# Altium integrated library ConnectorWireToBoard.IntLib: 63 symbols
Pins are listed as number, name and electrical type; pins without a type are passive.

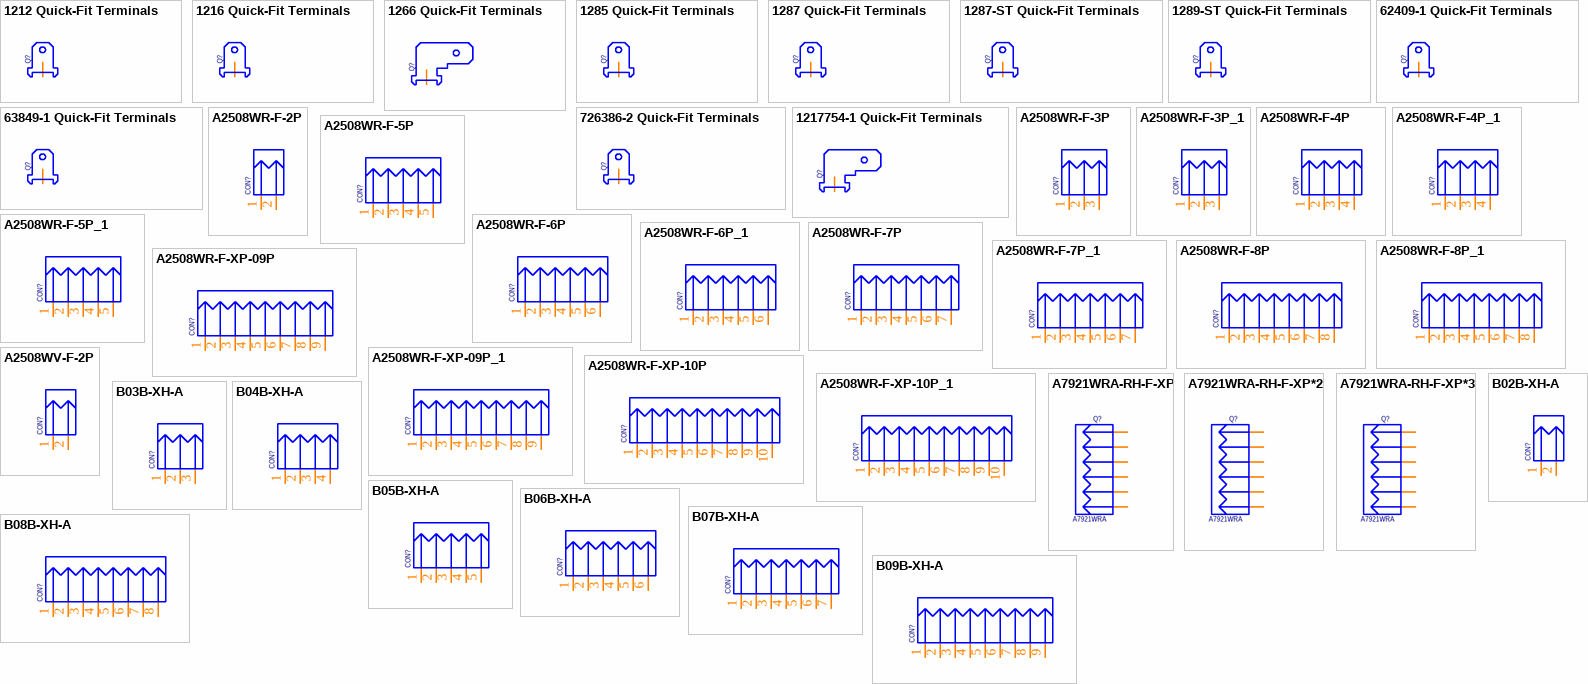
[diagram p0: symbols 1212 Quick-Fit Terminals to B09B-XH-A]

## 1212 Quick-Fit Terminals
designator Q?, comment 1212 Terminals  (value not drawn)
[4.75x6.0mm] Tab Size; Manufacturer: Keystone; Manufacturer PartNumber: 1212; Detailed Description: Male .187" Quick Fit Terminal P/N 1212; Value: 1212; Website developer: http://catcatcat.d-lan.dp.ua/; HelpURL: https://www.keyelco.com/product-pdf.cfm?p=595; Manufacturer URL: https://www.keyelco.com/product.cfm/Vertical-Mount/1216/p/398/id/401/c_id/1095/product_id/591; Package / Case: Through Hole; Publisher: Catcatcat Electronics
footprint 1212
footprint 1212U
pins: 1

## 1216 Quick-Fit Terminals
designator Q?, comment 1216 Terminals  (value not drawn)
[4.75x15.49mm] Tab Size; Manufacturer: Keystone; Manufacturer PartNumber: 1216; Detailed Description: Male .187" Quick Fit Terminal P/N 1216; Value: 1216; Website developer: http://catcatcat.d-lan.dp.ua/; HelpURL: https://www.keyelco.com/product-pdf.cfm?p=591; Manufacturer URL: https://www.keyelco.com/product.cfm/Vertical-Mount/1212/product_id/595; Package / Case: Through Hole; Publisher: Catcatcat Electronics
footprint 1216
footprint 1216U
pins: 1

## 1266 Quick-Fit Terminals
designator Q?, comment 1266 Terminals  (value not drawn)
[6.35x7.92mm] Tab Size; Manufacturer: Keystone; Manufacturer PartNumber: 1266; Detailed Description: Male .250" Quick Fit Terminal P/N 1266; Value: 1266; Website developer: http://catcatcat.d-lan.dp.ua/; Dealer LCSC: https://lcsc.com/product-detail/_Keystone_1266_Keystone-1266_C238076.html; HelpURL: https://datasheet.lcsc.com/szlcsc/Keystone-1266_C238076.pdf; Manufacturer URL: https://www.keyelco.com/product.cfm/Horizontal-Mount/1266/product_id/607; Package / Case: Through Hole; PartNumber LCSC: C238076; Pricing LCSC: 0.1909; Publisher: Catcatcat Electronics
footprint 1266U
footprint 1266
pins: 1

## 1285 Quick-Fit Terminals
designator Q?, comment 1285 Terminals  (value not drawn)
[4.75x8.89mm] Tab Size; Manufacturer: Keystone; Manufacturer PartNumber: 1285; Detailed Description: Male .187" Quick Fit Terminal P/N 1285; Value: 1285; Website developer: http://catcatcat.d-lan.dp.ua/; Dealer LCSC: https://lcsc.com/product-detail/Soldering-Terminals-Quick-Connectors_Keystone_1285_Keystone-1285_C238077.html; HelpURL: https://datasheet.lcsc.com/szlcsc/Keystone-1285_C238077.pdf; Manufacturer URL: https://www.keyelco.com/product.cfm/Vertical-Mount/1285/product_id/590; Package / Case: Through Hole; PartNumber LCSC: C238077; Pricing LCSC: 0.1519; Publisher: Catcatcat Electronics
footprint 1285
footprint 1285U
pins: 1

## 1287 Quick-Fit Terminals
designator Q?, comment 1287 Terminals  (value not drawn)
[6.35x10.39mm] Tab Size; Manufacturer: Keystone; Manufacturer PartNumber: 1287; Detailed Description: Male .250" Quick Fit Terminal Sturdi-Mount P/N 1287; Value: 1287; Website developer: http://catcatcat.d-lan.dp.ua/; Dealer LCSC: https://lcsc.com/product-detail/Soldering-Terminals-Quick-Connectors_Keystone_1287_Keystone-1287_C238078.html; HelpURL: https://datasheet.lcsc.com/szlcsc/Keystone-1287_C238078.pdf; Manufacturer URL: https://www.keyelco.com/product.cfm/Vertical-Sturdi-Mount/1287-ST/product_id/1859; Package / Case: Through Hole; PartNumber LCSC: C238078; Pricing LCSC: 0.1076; Publisher: Catcatcat Electronics
footprint 1287U
footprint 1287
pins: 1

## 1287-ST Quick-Fit Terminals
designator Q?, comment 1287-ST Terminals  (value not drawn)
[6.35x10.39mm] Tab Size; Manufacturer: Keystone; Detailed Description: Male .250" Quick Fit Terminal Sturdi-Mount P/N 1287-ST; Website developer: http://catcatcat.d-lan.dp.ua/; Dealer LCSC: https://lcsc.com/product-detail/Soldering-Terminals-Quick-Connectors_Keystone_1287_Keystone-1287_C238078.html; HelpURL: https://www.keyelco.com/product-pdf.cfm?p=1859; Manufacturer PartNumber: 1287-ST; Manufacturer URL: https://www.keyelco.com/product.cfm/Vertical-Sturdi-Mount/1287-ST/product_id/1859; Package / Case: Through Hole; Publisher: Catcatcat Electronics; Value: 1287-ST
footprint 1287-STU
footprint 1287-ST
pins: 1

## 1289-ST Quick-Fit Terminals
designator Q?, comment 1289-ST Terminals  (value not drawn)
[6.35x11.94mm] Tab Size; Manufacturer: Keystone; Detailed Description: Male .250" Quick Fit Terminal Sturdi-Mount P/N 1289-ST; Website developer: http://catcatcat.d-lan.dp.ua/; HelpURL: https://www.keyelco.com/product-pdf.cfm?p=1860; Manufacturer PartNumber: 1289-ST; Manufacturer URL: https://www.keyelco.com/product.cfm/Vertical-Sturdi-Mount/1289-ST/product_id/1860; Package / Case: Through Hole; Publisher: Catcatcat Electronics; Value: 1289-ST
footprint 1289-ST
footprint 1289-STU
pins: 1

## 62409-1 Quick-Fit Terminals
designator Q?, comment 62409-1 Terminals  (value not drawn)
[6.35x12.62mm] Tab Size; Manufacturer: TE Connectivity; Detailed Description: Terminals Terminal RoHS; Website developer: http://catcatcat.d-lan.dp.ua/; Dealer LCSC: https://lcsc.com/product-detail/Rectangular-Connectors-Contacts_TE-Connectivity_62409-1_Terminal-Male-head_C86495.html; HelpURL: https://datasheet.lcsc.com/szlcsc/TE-Connectivity-62409-1_C86495.pdf; Manufacturer PartNumber: 62409-1; Package / Case: Through Hole; PartNumber LCSC: C86495; Pricing LCSC: 0.0508; Publisher: Catcatcat Electronics; Value: 62409-1
footprint 1289-ST
footprint 1289-STU
pins: 1

## 63849-1 Quick-Fit Terminals
designator Q?, comment 63849-1 Terminals  (value not drawn)
[6.35x10.39] Tab Size; Manufacturer: TE Connectivity; Detailed Description: Terminals Terminal RoHS; Website developer: http://catcatcat.d-lan.dp.ua/; Dealer LCSC: https://lcsc.com/product-detail/Rectangular-Connectors-Contacts_TE-Connectivity_63849-1_PCB-Terminal_C86469.html; HelpURL: https://datasheet.lcsc.com/szlcsc/TE-Connectivity-63849-1_C86469.pdf; Manufacturer PartNumber: 63849-1; Package / Case: Through Hole; PartNumber LCSC: C86469; Pricing LCSC: 0.0411; Publisher: Catcatcat Electronics; Value: 63849-1
footprint 1287-STU
footprint 1287-ST
pins: 1

## 726386-2 Quick-Fit Terminals
designator Q?, comment 726386-2 Terminals  (value not drawn)
[6.35x10.00mm] Tab Size; Manufacturer: TE Connectivity; Detailed Description: Terminals Terminal RoHS; Website developer: http://catcatcat.d-lan.dp.ua/; Dealer LCSC: https://lcsc.com/product-detail/Others_TE-Connectivity_726386-2_TE-Connectivity-726386-2_C305817.html; HelpURL: https://datasheet.lcsc.com/szlcsc/TE-Connectivity-726386-2_C305817.pdf; Manufacturer PartNumber: 726386-2; Package / Case: Through Hole; PartNumber LCSC: C305817; Pricing LCSC: 0.0719; Publisher: Catcatcat Electronics; Value: 726386-2
footprint 1287-STU
footprint 1287-ST
pins: 1

## 1217754-1 Quick-Fit Terminals
designator Q?, comment 1217754-1 Terminals  (value not drawn)
[6.35x7.92mm] Tab Size; Manufacturer: TE Connectivity; Detailed Description: Terminals RoHS; Website developer: http://catcatcat.d-lan.dp.ua/; Dealer LCSC: https://lcsc.com/product-detail/Others_TE-Connectivity_1217754-1_TE-Connectivity-1217754-1_C305825.html; HelpURL: https://datasheet.lcsc.com/szlcsc/TE-Connectivity-1217754-1_C305825.pdf; Manufacturer PartNumber: 1217754-1; Package / Case: Through Hole; PartNumber LCSC: C305825; Pricing LCSC: 0.1111; Publisher: Catcatcat Electronics; Value: 1217754-1
footprint 1266U (Footprint not found)
footprint 1266 (Footprint not found)
pins: 1

## A2508WR-F-2P
designator CON?  (value not drawn)
3 A 250 V 2.5 mm; Manufacturer: Changjiang Connectors; Value: A2508WR-F-XP-02P; Temp.Characteristic: -40C to +85C; Detailed Description: Wire To Board / Wire To Wire Connector PluginP=2.5mm RoHS; ComponentLink1URL: http://www.jst-mfg.com; ComponentLink2URL: http://www.jst-mfg.com/product/images/pdf.gif; Package / Case: 2.5 mm; Publisher: Catcatcat Electronics; Voltage: 3 A 250 V 2.5 mm; HelpURL: https://datasheet.lcsc.com/szlcsc/Changjiang-Connectors-A2508WR-F-2P_C225470.pdf; Manufacturer PartNumber: A2508WR-F-2P; Website developer: http://catcatcat.d-lan.dp.ua/; Dealer LCSC: https://lcsc.com/product-detail/Wire-To-Board-Wire-To-Wire-Connector_Changjiang-Connectors-A2508WR-F-2P_C225470.html; PartNumber LCSC: C225470; Pricing LCSC: 0.0456
footprint A2508WR-F-XP-02P
pins: 1, 2

## A2508WR-F-3P
designator CON?  (value not drawn)
3 A 250 V 2.5 mm; Manufacturer: Changjiang Connectors; Value: A2508WR-F-XP-03P; Temp.Characteristic: -40C to +85C; Detailed Description: Wire To Board / Wire To Wire Connector PluginP=2.5mm RoHS; ComponentLink1URL: http://www.jst-mfg.com; ComponentLink2URL: http://www.jst-mfg.com/product/images/pdf.gif; Package / Case: 2.5 mm; Publisher: Catcatcat Electronics; Voltage: 3 A 250 V 2.5 mm; HelpURL: https://datasheet.lcsc.com/szlcsc/Changjiang-Connectors-A2508WR-F-3P_C225471.pdf; Manufacturer PartNumber: A2508WR-F-3P; Website developer: http://catcatcat.d-lan.dp.ua/; Dealer LCSC: https://lcsc.com/product-detail/Wire-To-Board-Wire-To-Wire-Connector_Changjiang-Connectors-A2508WR-F-3P_C225471.html; PartNumber LCSC: C225471; Pricing LCSC: 0.0710
footprint A2508WR-F-XP-03P
pins: 1, 2, 3

## A2508WR-F-3P_1
designator CON?, comment A2508WR-F-3P  (value not drawn)
3 A 250 V 2.5 mm; Manufacturer: Changjiang Connectors; Value: A2508WR-F-XP-03P; Temp.Characteristic: -40C to +85C; Detailed Description: Wire To Board / Wire To Wire Connector PluginP=2.5mm RoHS; ComponentLink1URL: http://www.jst-mfg.com; ComponentLink2URL: http://www.jst-mfg.com/product/images/pdf.gif; Package / Case: 2.5 mm; Publisher: Catcatcat Electronics; Voltage: 3 A 250 V 2.5 mm; HelpURL: https://datasheet.lcsc.com/szlcsc/Changjiang-Connectors-A2508WR-F-3P_C225471.pdf; Manufacturer PartNumber: A2508WR-F-3P; Website developer: http://catcatcat.d-lan.dp.ua/; Dealer LCSC: https://lcsc.com/product-detail/Wire-To-Board-Wire-To-Wire-Connector_Changjiang-Connectors-A2508WR-F-3P_C225471.html; PartNumber LCSC: C225471; Pricing LCSC: 0.0710
footprint A2508WR-F-XP-03P
pins: 1, 2, 3

## A2508WR-F-4P
designator CON?  (value not drawn)
3 A 250 V 2.5 mm; Manufacturer: Changjiang Connectors; Value: A2508WR-F-XP-04P; Pricing Аlternative: 0.029; Temp.Characteristic: -40C to +85C; Detailed Description: Wire To Board / Wire To Wire Connector PluginP=2.5mm RoHS; ComponentLink1URL: http://www.jst-mfg.com; ComponentLink2URL: http://www.jst-mfg.com/product/images/pdf.gif; Package / Case: 2.5 mm; Publisher: Catcatcat Electronics; Voltage: 3 A 250 V 2.5 mm; HelpURL: https://datasheet.lcsc.com/szlcsc/Changjiang-Connectors-A2508WR-F-4P_C225472.pdf; Manufacturer PartNumber: A2508WR-F-4P; Website developer: http://catcatcat.d-lan.dp.ua/; Dealer LCSC: https://lcsc.com/product-detail/Wire-To-Board-Wire-To-Wire-Connector_Changjiang-Connectors-A2508WR-F-4P_C225472.html; PartNumber LCSC: C225472; Pricing LCSC: 0.0947
footprint A2508WR-F-XP-04P
pins: 1, 2, 3, 4

## A2508WR-F-4P_1
designator CON?, comment A2508WR-F-4P  (value not drawn)
3 A 250 V 2.5 mm; Manufacturer: Changjiang Connectors; Value: A2508WR-F-XP-04P; Pricing Аlternative: 0.029; Temp.Characteristic: -40C to +85C; Detailed Description: Wire To Board / Wire To Wire Connector PluginP=2.5mm RoHS; ComponentLink1URL: http://www.jst-mfg.com; ComponentLink2URL: http://www.jst-mfg.com/product/images/pdf.gif; Package / Case: 2.5 mm; Publisher: Catcatcat Electronics; Voltage: 3 A 250 V 2.5 mm; HelpURL: https://datasheet.lcsc.com/szlcsc/Changjiang-Connectors-A2508WR-F-4P_C225472.pdf; Manufacturer PartNumber: A2508WR-F-4P; Website developer: http://catcatcat.d-lan.dp.ua/; Dealer LCSC: https://lcsc.com/product-detail/Wire-To-Board-Wire-To-Wire-Connector_Changjiang-Connectors-A2508WR-F-4P_C225472.html; PartNumber LCSC: C225472; Pricing LCSC: 0.0947
footprint A2508WR-F-XP-04P
pins: 1, 2, 3, 4

## A2508WR-F-5P
designator CON?  (value not drawn)
3 A 250 V 2.5 mm; Manufacturer: Changjiang Connectors; Value: A2508WR-F-XP-05P; Temp.Characteristic: -40C to +85C; Detailed Description: Wire To Board / Wire To Wire Connector PluginP=2.5mm RoHS; ComponentLink1URL: http://www.jst-mfg.com; ComponentLink2URL: http://www.jst-mfg.com/product/images/pdf.gif; Package / Case: 2.5 mm; Publisher: Catcatcat Electronics; Voltage: 3 A 250 V 2.5 mm; HelpURL: https://datasheet.lcsc.com/szlcsc/Changjiang-Connectors-A2508WR-F-5P_C225473.pdf; Manufacturer PartNumber: A2508WR-F-5P; Website developer: http://catcatcat.d-lan.dp.ua/; Dealer LCSC: https://lcsc.com/product-detail/Wire-To-Board-Wire-To-Wire-Connector_Changjiang-Connectors-A2508WR-F-5P_C225473.html; PartNumber LCSC: C225473; Pricing LCSC: 0.1167
footprint A2508WR-F-XP-05P
pins: 1, 2, 3, 4, 5

## A2508WR-F-5P_1
designator CON?, comment A2508WR-F-5P  (value not drawn)
3 A 250 V 2.5 mm; Manufacturer: Changjiang Connectors; Value: A2508WR-F-XP-05P; Temp.Characteristic: -40C to +85C; Detailed Description: Wire To Board / Wire To Wire Connector PluginP=2.5mm RoHS; ComponentLink1URL: http://www.jst-mfg.com; ComponentLink2URL: http://www.jst-mfg.com/product/images/pdf.gif; Package / Case: 2.5 mm; Publisher: Catcatcat Electronics; Voltage: 3 A 250 V 2.5 mm; HelpURL: https://datasheet.lcsc.com/szlcsc/Changjiang-Connectors-A2508WR-F-5P_C225473.pdf; Manufacturer PartNumber: A2508WR-F-5P; Website developer: http://catcatcat.d-lan.dp.ua/; Dealer LCSC: https://lcsc.com/product-detail/Wire-To-Board-Wire-To-Wire-Connector_Changjiang-Connectors-A2508WR-F-5P_C225473.html; PartNumber LCSC: C225473; Pricing LCSC: 0.1167
footprint A2508WR-F-XP-05P
pins: 1, 2, 3, 4, 5

## A2508WR-F-6P
designator CON?  (value not drawn)
3 A 250 V 2.5 mm; Manufacturer: Changjiang Connectors; Value: A2508WR-F-XP-06P; Temp.Characteristic: -40C to +85C; Detailed Description: Wire To Board / Wire To Wire Connector PluginP=2.5mm RoHS; ComponentLink1URL: http://www.jst-mfg.com; ComponentLink2URL: http://www.jst-mfg.com/product/images/pdf.gif; Package / Case: 2.5 mm; Publisher: Catcatcat Electronics; Voltage: 3 A 250 V 2.5 mm; HelpURL: https://datasheet.lcsc.com/szlcsc/Changjiang-Connectors-A2508WR-F-6P_C225474.pdf; Manufacturer PartNumber: A2508WR-F-6P; Website developer: http://catcatcat.d-lan.dp.ua/; Dealer LCSC: https://lcsc.com/product-detail/Wire-To-Board-Wire-To-Wire-Connector_Changjiang-Connectors-A2508WR-F-6P_C225474.html; PartNumber LCSC: C225474; Pricing LCSC: 0.1409
footprint A2508WR-F-XP-06P
pins: 1, 2, 3, 4, 5, 6

## A2508WR-F-6P_1
designator CON?, comment A2508WR-F-6P  (value not drawn)
3 A 250 V 2.5 mm; Manufacturer: Changjiang Connectors; Value: A2508WR-F-XP-06P; Temp.Characteristic: -40C to +85C; Detailed Description: Wire To Board / Wire To Wire Connector PluginP=2.5mm RoHS; ComponentLink1URL: http://www.jst-mfg.com; ComponentLink2URL: http://www.jst-mfg.com/product/images/pdf.gif; Package / Case: 2.5 mm; Publisher: Catcatcat Electronics; Voltage: 3 A 250 V 2.5 mm; HelpURL: https://datasheet.lcsc.com/szlcsc/Changjiang-Connectors-A2508WR-F-6P_C225474.pdf; Manufacturer PartNumber: A2508WR-F-6P; Website developer: http://catcatcat.d-lan.dp.ua/; Dealer LCSC: https://lcsc.com/product-detail/Wire-To-Board-Wire-To-Wire-Connector_Changjiang-Connectors-A2508WR-F-6P_C225474.html; PartNumber LCSC: C225474; Pricing LCSC: 0.1409
footprint A2508WR-F-XP-06P
pins: 1, 2, 3, 4, 5, 6

## A2508WR-F-7P
designator CON?  (value not drawn)
3 A 250 V 2.5 mm; Manufacturer: Changjiang Connectors; Value: A2508WR-F-XP-07P; Temp.Characteristic: -40C to +85C; Detailed Description: Wire To Board / Wire To Wire Connector PluginP=2.5mm RoHS; ComponentLink1URL: http://www.jst-mfg.com; ComponentLink2URL: http://www.jst-mfg.com/product/images/pdf.gif; Package / Case: 2.5 mm; Publisher: Catcatcat Electronics; Voltage: 3 A 250 V 2.5 mm; HelpURL: https://datasheet.lcsc.com/szlcsc/Changjiang-Connectors-A2508WR-F-7P_C225475.pdf; Manufacturer PartNumber: A2508WR-F-7P; Website developer: http://catcatcat.d-lan.dp.ua/; Dealer LCSC: https://lcsc.com/product-detail/Wire-To-Board-Wire-To-Wire-Connector_Changjiang-Connectors-A2508WR-F-7P_C225475.html; PartNumber LCSC: C225475; Pricing LCSC: 0.1636
footprint A2508WR-F-XP-07P
pins: 1, 2, 3, 4, 5, 6, 7

## A2508WR-F-7P_1
designator CON?, comment A2508WR-F-7P  (value not drawn)
3 A 250 V 2.5 mm; Manufacturer: Changjiang Connectors; Value: A2508WR-F-XP-07P; Temp.Characteristic: -40C to +85C; Detailed Description: Wire To Board / Wire To Wire Connector PluginP=2.5mm RoHS; ComponentLink1URL: http://www.jst-mfg.com; ComponentLink2URL: http://www.jst-mfg.com/product/images/pdf.gif; Package / Case: 2.5 mm; Publisher: Catcatcat Electronics; Voltage: 3 A 250 V 2.5 mm; HelpURL: https://datasheet.lcsc.com/szlcsc/Changjiang-Connectors-A2508WR-F-7P_C225475.pdf; Manufacturer PartNumber: A2508WR-F-7P; Website developer: http://catcatcat.d-lan.dp.ua/; Dealer LCSC: https://lcsc.com/product-detail/Wire-To-Board-Wire-To-Wire-Connector_Changjiang-Connectors-A2508WR-F-7P_C225475.html; PartNumber LCSC: C225475; Pricing LCSC: 0.1636
footprint A2508WR-F-XP-07P
pins: 1, 2, 3, 4, 5, 6, 7

## A2508WR-F-8P
designator CON?  (value not drawn)
3 A 250 V 2.5 mm; Manufacturer: Changjiang Connectors; Value: A2508WR-F-XP-08P; Temp.Characteristic: -40C to +85C; Detailed Description: Wire To Board / Wire To Wire Connector PluginP=2.5mm RoHS; ComponentLink1URL: http://www.jst-mfg.com; ComponentLink2URL: http://www.jst-mfg.com/product/images/pdf.gif; Package / Case: 2.5 mm; Publisher: Catcatcat Electronics; Voltage: 3 A 250 V 2.5 mm; HelpURL: https://datasheet.lcsc.com/szlcsc/Changjiang-Connectors-A2508WR-F-8P_C225476.pdf; Manufacturer PartNumber: A2508WR-F-8P; Website developer: http://catcatcat.d-lan.dp.ua/; PartNumber LCSC: C225476; Pricing LCSC: 0.1848
footprint A2508WR-F-XP-08P
pins: 1, 2, 3, 4, 5, 6, 7, 8

## A2508WR-F-8P_1
designator CON?, comment A2508WR-F-8P  (value not drawn)
3 A 250 V 2.5 mm; Manufacturer: Changjiang Connectors; Value: A2508WR-F-XP-08P; Temp.Characteristic: -40C to +85C; Detailed Description: Wire To Board / Wire To Wire Connector PluginP=2.5mm RoHS; ComponentLink1URL: http://www.jst-mfg.com; ComponentLink2URL: http://www.jst-mfg.com/product/images/pdf.gif; Package / Case: 2.5 mm; Publisher: Catcatcat Electronics; Voltage: 3 A 250 V 2.5 mm; HelpURL: https://datasheet.lcsc.com/szlcsc/Changjiang-Connectors-A2508WR-F-8P_C225476.pdf; Manufacturer PartNumber: A2508WR-F-8P; Website developer: http://catcatcat.d-lan.dp.ua/; PartNumber LCSC: C225476; Pricing LCSC: 0.1848
footprint A2508WR-F-XP-08P
pins: 1, 2, 3, 4, 5, 6, 7, 8

## A2508WR-F-XP-09P
designator CON?  (value not drawn)
3 A 250 V 2.5 mm; Manufacturer: Changjiang Connectors; Value: A2508WR-F-XP-09P; Temp.Characteristic: -40C to +85C; Detailed Description: Wire To Board / Wire To Wire Connector PluginP=2.5mm RoHS; ComponentLink1URL: http://www.jst-mfg.com; ComponentLink2URL: http://www.jst-mfg.com/product/images/pdf.gif; Package / Case: 2.5 mm; Publisher: Catcatcat Electronics; Voltage: 3 A 250 V 2.5 mm; Website developer: http://catcatcat.d-lan.dp.ua/
footprint A2508WR-F-XP-09P
pins: 1, 2, 3, 4, 5, 6, 7, 8, 9

## A2508WR-F-XP-09P_1
designator CON?  (value not drawn)
3 A 250 V 2.5 mm; Manufacturer: Changjiang Connectors; Value: A2508WR-F-XP-09P; Temp.Characteristic: -40C to +85C; Detailed Description: Wire To Board / Wire To Wire Connector PluginP=2.5mm RoHS; ComponentLink1URL: http://www.jst-mfg.com; ComponentLink2URL: http://www.jst-mfg.com/product/images/pdf.gif; Package / Case: 2.5 mm; Publisher: Catcatcat Electronics; Voltage: 3 A 250 V 2.5 mm; Website developer: http://catcatcat.d-lan.dp.ua/
footprint A2508WR-F-XP-09P
pins: 1, 2, 3, 4, 5, 6, 7, 8, 9

## A2508WR-F-XP-10P
designator CON?  (value not drawn)
3 A 250 V 2.5 mm; Manufacturer: Changjiang Connectors; Value: A2508WR-F-XP-10P; Temp.Characteristic: -40C to +85C; Detailed Description: Wire To Board / Wire To Wire Connector PluginP=2.5mm RoHS; ComponentLink1URL: http://www.jst-mfg.com; ComponentLink2URL: http://www.jst-mfg.com/product/images/pdf.gif; Package / Case: 2.5 mm; Publisher: Catcatcat Electronics; Voltage: 3 A 250 V 2.5 mm; Website developer: http://catcatcat.d-lan.dp.ua/
footprint A2508WR-F-XP-10P
pins: 1, 2, 3, 4, 5, 6, 7, 8, 9, 10

## A2508WR-F-XP-10P_1
designator CON?  (value not drawn)
3 A 250 V 2.5 mm; Manufacturer: Changjiang Connectors; Value: A2508WR-F-XP-10P; Temp.Characteristic: -40C to +85C; Detailed Description: Wire To Board / Wire To Wire Connector PluginP=2.5mm RoHS; ComponentLink1URL: http://www.jst-mfg.com; ComponentLink2URL: http://www.jst-mfg.com/product/images/pdf.gif; Package / Case: 2.5 mm; Publisher: Catcatcat Electronics; Voltage: 3 A 250 V 2.5 mm; Website developer: http://catcatcat.d-lan.dp.ua/
footprint A2508WR-F-XP-10P
pins: 1, 2, 3, 4, 5, 6, 7, 8, 9, 10

## A2508WV-F-2P
designator CON?  (value not drawn)
3 A 250 V 2.5 mm; Manufacturer: Changjiang Connectors; Temp.Characteristic: -40C to +85C; Detailed Description: Wire To Board / Wire To Wire Connector PluginP=2.5mm RoHS; Value: A2508WV-F-2P; ComponentLink1URL: http://www.jst-mfg.com; ComponentLink2URL: http://www.jst-mfg.com/product/images/pdf.gif; Package / Case: 2.5 mm; Publisher: Catcatcat Electronics; Voltage: 3 A 250 V 2.5 mm; HelpURL: https://datasheet.lcsc.com/szlcsc/Changjiang-Connectors-A2508WV-F-2P_C225459.pdf; Manufacturer PartNumber: A2508WV-F-2P; Website developer: http://catcatcat.d-lan.dp.ua/; Dealer LCSC: https://lcsc.com/product-detail/Wire-To-Board-Wire-To-Wire-Connector_Changjiang-Connectors-A2508WV-F-2P_C225459.html; PartNumber LCSC: C225459; Pricing LCSC: 0.0355
footprint A2508WV-XP-02P
pins: 1, 2

## A7921WRA-RH-F-XP
designator Q?  value A7921WRA  (hidden comment: A7921WRA-RH-F-XP)
5.00mm Pitch,RAST 5 Header,Right Angle, With Positioning Spigot,6 Positions; Manufacturer: CJT; Website developer: http://catcatcat.d-lan.dp.ua/; Dealer LCSC: https://lcsc.com/product-detail/Terminals_Xucheng-Elec-EST026_C52878.html; Detailed Description: 5.00mm Pitch,RAST 5 Header,Right Angle, With Positioning Spigot,6 Positions; HelpURL: https://www.cjtconn.com:8443/Upload/A7921.pdf; Manufacturer PartNumber: A7921WRA; Manufacturer URL: http://www.cjt.cn/; Package / Case: Through Hole; Publisher: Catcatcat Electronics
footprint A7921WRA-RH-F-XP
pins: 1, 2, 3, 4, 5, 6

## A7921WRA-RH-F-XP*2
designator Q?  value A7921WRA  (hidden comment: A7921WRA-RH-F-XP*2)
5.00mm Pitch,RAST 5 Header,Right Angle, With Positioning Spigot,6 Positions; Manufacturer: CJT; Website developer: http://catcatcat.d-lan.dp.ua/; Dealer LCSC: https://lcsc.com/product-detail/Terminals_Xucheng-Elec-EST026_C52878.html; Detailed Description: 5.00mm Pitch,RAST 5 Header,Right Angle, With Positioning Spigot,6 Positions; HelpURL: https://www.cjtconn.com:8443/Upload/A7921.pdf; Manufacturer PartNumber: A7921WRA; Manufacturer URL: http://www.cjt.cn/; Package / Case: Through Hole; Publisher: Catcatcat Electronics
footprint A7921WRA-RH-F-XP*2
pins: 1, 2, 3, 4, 5, 6

## A7921WRA-RH-F-XP*3
designator Q?  value A7921WRA  (hidden comment: A7921WRA-RH-F-XP*3)
5.00mm Pitch,RAST 5 Header,Right Angle, With Positioning Spigot,6 Positions; Manufacturer: CJT; Website developer: http://catcatcat.d-lan.dp.ua/; Dealer LCSC: https://lcsc.com/product-detail/Terminals_Xucheng-Elec-EST026_C52878.html; Detailed Description: 5.00mm Pitch,RAST 5 Header,Right Angle, With Positioning Spigot,6 Positions; HelpURL: https://www.cjtconn.com:8443/Upload/A7921.pdf; Manufacturer PartNumber: A7921WRA; Manufacturer URL: http://www.cjt.cn/; Package / Case: Through Hole; Publisher: Catcatcat Electronics
footprint A7921WRA-RH-F-XP*3
pins: 1, 2, 3, 4, 5, 6

## B02B-XH-A
designator CON?  (value not drawn)
3 A 250 V 2.5 mm; Value: B02B-XH-A; Pricing Аlternative: 0.029; Temp.Characteristic: -40C to +85C; ComponentLink1URL: http://www.jst-mfg.com; ComponentLink2URL: http://www.jst-mfg.com/product/images/pdf.gif; Dealer Digi-Key: https://detail.1688.com/offer/38233239228.html; Package / Case: 2.5 mm; PartNumber Digi-Key: B02B-XH-A; Pricing Digi-Key: 0.1; Publisher: Catcatcat Electronics; Voltage: 3 A 250 V 2.5 mm; Website developer: http://catcatcat.d-lan.dp.ua/
footprint B02B-XH-A
pins: 1, 2

## B03B-XH-A
designator CON?  (value not drawn)
3 A 250 V 2.5 mm; Value: B03B-XH-A; Pricing Аlternative: 0.029; Temp.Characteristic: -40C to +85C; ComponentLink1URL: http://www.jst-mfg.com; ComponentLink2URL: http://www.jst-mfg.com/product/images/pdf.gif; Dealer Digi-Key: https://detail.1688.com/offer/38233239228.html; Package / Case: 2.5 mm; PartNumber Digi-Key: B03B-XH-A; Pricing Digi-Key: 0.1; Publisher: Catcatcat Electronics; Voltage: 3 A 250 V 2.5 mm; Website developer: http://catcatcat.d-lan.dp.ua/
footprint B03B-XH-A
pins: 1, 2, 3

## B04B-XH-A
designator CON?  (value not drawn)
3 A 250 V 2.5 mm; Value: B04B-XH-A; Pricing Аlternative: 0.029; Temp.Characteristic: -40C to +85C; ComponentLink1URL: http://www.jst-mfg.com; ComponentLink2URL: http://www.jst-mfg.com/product/images/pdf.gif; Dealer Digi-Key: https://detail.1688.com/offer/38233239228.html; Package / Case: 2.5 mm; PartNumber Digi-Key: B04B-XH-A; Pricing Digi-Key: 0.1; Publisher: Catcatcat Electronics; Voltage: 3 A 250 V 2.5 mm; Website developer: http://catcatcat.d-lan.dp.ua/
footprint B04B-XH-A
pins: 1, 2, 3, 4

## B05B-XH-A
designator CON?  (value not drawn)
3 A 250 V 2.5 mm; Value: B05B-XH-A; Pricing Аlternative: 0.029; Temp.Characteristic: -40C to +85C; ComponentLink1URL: http://www.jst-mfg.com; ComponentLink2URL: http://www.jst-mfg.com/product/images/pdf.gif; Dealer Digi-Key: https://detail.1688.com/offer/38233239228.html; Package / Case: 2.5 mm; PartNumber Digi-Key: B05B-XH-A; Pricing Digi-Key: 0.1; Publisher: Catcatcat Electronics; Voltage: 3 A 250 V 2.5 mm; Website developer: http://catcatcat.d-lan.dp.ua/
footprint B05B-XH-A
pins: 1, 2, 3, 4, 5

## B06B-XH-A
designator CON?  (value not drawn)
3 A 250 V 2.5 mm; Value: B06B-XH-A; Pricing Аlternative: 0.029; Temp.Characteristic: -40C to +85C; ComponentLink1URL: http://www.jst-mfg.com; ComponentLink2URL: http://www.jst-mfg.com/product/images/pdf.gif; Dealer Digi-Key: https://detail.1688.com/offer/38233239228.html; Package / Case: 2.5 mm; PartNumber Digi-Key: B06B-XH-A; Pricing Digi-Key: 0.1; Publisher: Catcatcat Electronics; Voltage: 3 A 250 V 2.5 mm; Website developer: http://catcatcat.d-lan.dp.ua/
footprint B06B-XH-A
pins: 1, 2, 3, 4, 5, 6

## B07B-XH-A
designator CON?  (value not drawn)
3 A 250 V 2.5 mm; Value: B07B-XH-A; Pricing Аlternative: 0.029; Temp.Characteristic: -40C to +85C; ComponentLink1URL: http://www.jst-mfg.com; ComponentLink2URL: http://www.jst-mfg.com/product/images/pdf.gif; Dealer Digi-Key: https://detail.1688.com/offer/38233239228.html; Package / Case: 2.5 mm; PartNumber Digi-Key: B07B-XH-A; Pricing Digi-Key: 0.1; Publisher: Catcatcat Electronics; Voltage: 3 A 250 V 2.5 mm; Website developer: http://catcatcat.d-lan.dp.ua/
footprint B07B-XH-A
pins: 1, 2, 3, 4, 5, 6, 7

## B08B-XH-A
designator CON?  (value not drawn)
3 A 250 V 2.5 mm; Value: B08B-XH-A; Pricing Аlternative: 0.029; Temp.Characteristic: -40C to +85C; ComponentLink1URL: http://www.jst-mfg.com; ComponentLink2URL: http://www.jst-mfg.com/product/images/pdf.gif; Dealer Digi-Key: https://detail.1688.com/offer/38233239228.html; Package / Case: 2.5 mm; PartNumber Digi-Key: B08B-XH-A; Pricing Digi-Key: 0.1; Publisher: Catcatcat Electronics; Voltage: 3 A 250 V 2.5 mm; Website developer: http://catcatcat.d-lan.dp.ua/
footprint B08B-XH-A
pins: 1, 2, 3, 4, 5, 6, 7, 8

## B09B-XH-A
designator CON?  (value not drawn)
3 A 250 V 2.5 mm; Value: B09B-XH-A; Pricing Аlternative: 0.029; Temp.Characteristic: -40C to +85C; ComponentLink1URL: http://www.jst-mfg.com; ComponentLink2URL: http://www.jst-mfg.com/product/images/pdf.gif; Dealer Digi-Key: https://detail.1688.com/offer/38233239228.html; Package / Case: 2.5 mm; PartNumber Digi-Key: B09B-XH-A; Pricing Digi-Key: 0.1; Publisher: Catcatcat Electronics; Voltage: 3 A 250 V 2.5 mm; Website developer: http://catcatcat.d-lan.dp.ua/
footprint B09B-XH-A
pins: 1, 2, 3, 4, 5, 6, 7, 8, 9

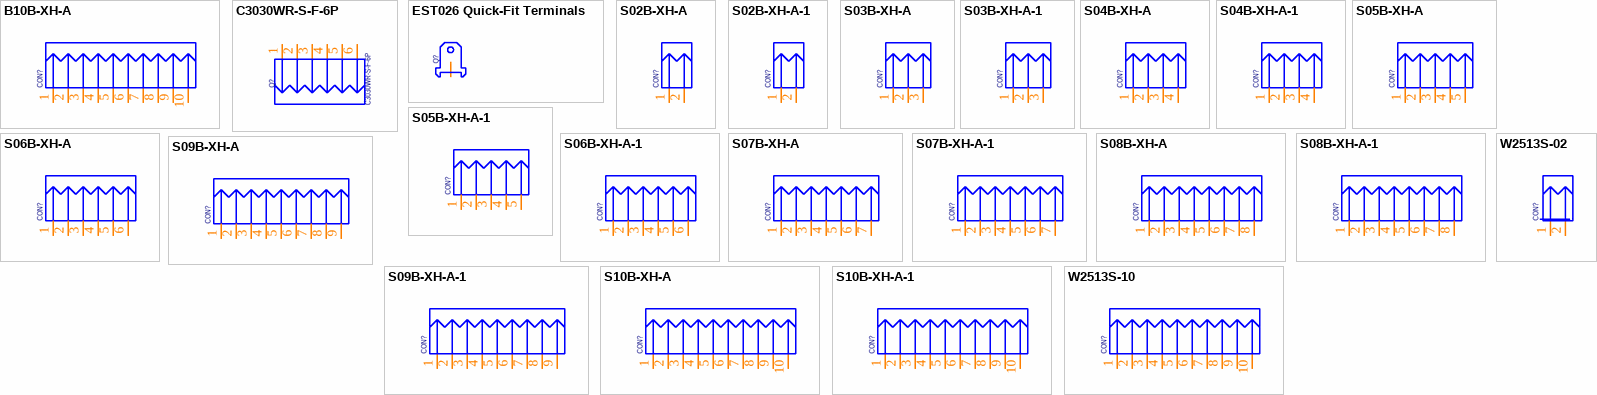
[diagram p1: symbols B10B-XH-A to W2513S-10]

## B10B-XH-A
designator CON?  (value not drawn)
3 A 250 V 2.5 mm; Value: B10B-XH-A; Pricing Аlternative: 0.029; Temp.Characteristic: -40C to +85C; ComponentLink1URL: http://www.jst-mfg.com; ComponentLink2URL: http://www.jst-mfg.com/product/images/pdf.gif; Dealer Digi-Key: https://detail.1688.com/offer/38233239228.html; Package / Case: 2.5 mm; PartNumber Digi-Key: B10B-XH-A; Pricing Digi-Key: 0.1; Publisher: Catcatcat Electronics; Voltage: 3 A 250 V 2.5 mm; Website developer: http://catcatcat.d-lan.dp.ua/
footprint B10B-XH-A
pins: 1, 2, 3, 4, 5, 6, 7, 8, 9, 10

## C3030WR-S-F-6P
designator Q?
600V 8.5A 3.00mm; Website developer: http://catcatcat.d-lan.dp.ua/; Manufacturer PartNumber: C3030WR-S-F-6P; Package / Case: Through Hole; Publisher: Catcatcat Electronics; Value: C3030WR-S-F-6P
footprint C3030WR-F-XP-6P
pins: 1, 2, 3, 4, 5, 6

## EST026 Quick-Fit Terminals
designator Q?, comment EST026 Terminals  (value not drawn)
[6.35x10.60mm] Tab Size; Manufacturer: Xucheng Elec; Website developer: http://catcatcat.d-lan.dp.ua/; Dealer LCSC: https://lcsc.com/product-detail/Terminals_Xucheng-Elec-EST026_C52878.html; HelpURL: https://datasheet.lcsc.com/szlcsc/XC-Elec-Shenzhen-EST026_C52878.pdf; Manufacturer PartNumber: EST026; Package / Case: Through Hole; PartNumber LCSC: C52878; Pricing LCSC: 0.0159; Publisher: Catcatcat Electronics; Value: EST026
footprint 1287-STU
footprint 1287-ST
pins: 1

## S02B-XH-A
designator CON?  (value not drawn)
3 A 250 V 2.5 mm; Value: S02B-XH-A; Pricing Аlternative: 0.029; Temp.Characteristic: -40C to +85C; ComponentLink1URL: http://www.jst-mfg.com; ComponentLink2URL: http://www.jst-mfg.com/product/images/pdf.gif; Dealer Digi-Key: https://detail.1688.com/offer/38233239228.html; Package / Case: 2.5 mm; PartNumber Digi-Key: S02B-XH-A; Pricing Digi-Key: 0.1; Publisher: Catcatcat Electronics; Voltage: 3 A 250 V 2.5 mm; Website developer: http://catcatcat.d-lan.dp.ua/
footprint S02B-XH-A
pins: 1, 2

## S02B-XH-A-1
designator CON?  (value not drawn)
3 A 250 V 2.5 mm; Value: S02B-XH-A-1; Pricing Аlternative: 0.029; Temp.Characteristic: -40C to +85C; ComponentLink1URL: http://www.jst-mfg.com; ComponentLink2URL: http://www.jst-mfg.com/product/images/pdf.gif; Dealer Digi-Key: https://detail.1688.com/offer/38233239228.html; Package / Case: 2.5 mm; PartNumber Digi-Key: S02B-XH-A-1; Pricing Digi-Key: 0.1; Publisher: Catcatcat Electronics; Voltage: 3 A 250 V 2.5 mm; Website developer: http://catcatcat.d-lan.dp.ua/
footprint S02B-XH-A-1
pins: 1, 2

## S03B-XH-A
designator CON?  (value not drawn)
3 A 250 V 2.5 mm; Value: S03B-XH-A; Pricing Аlternative: 0.029; Temp.Characteristic: -40C to +85C; ComponentLink1URL: http://www.jst-mfg.com; ComponentLink2URL: http://www.jst-mfg.com/product/images/pdf.gif; Dealer Digi-Key: https://detail.1688.com/offer/38233239228.html; Package / Case: 2.5 mm; PartNumber Digi-Key: S03B-XH-A; Pricing Digi-Key: 0.1; Publisher: Catcatcat Electronics; Voltage: 3 A 250 V 2.5 mm; Website developer: http://catcatcat.d-lan.dp.ua/
footprint S03B-XH-A
pins: 1, 2, 3

## S03B-XH-A-1
designator CON?  (value not drawn)
3 A 250 V 2.5 mm; Value: S03B-XH-A-1; Pricing Аlternative: 0.029; Temp.Characteristic: -40C to +85C; ComponentLink1URL: http://www.jst-mfg.com; ComponentLink2URL: http://www.jst-mfg.com/product/images/pdf.gif; Dealer Digi-Key: https://detail.1688.com/offer/38233239228.html; Package / Case: 2.5 mm; PartNumber Digi-Key: S03B-XH-A-1; Pricing Digi-Key: 0.1; Publisher: Catcatcat Electronics; Voltage: 3 A 250 V 2.5 mm; Website developer: http://catcatcat.d-lan.dp.ua/
footprint S03B-XH-A-1
pins: 1, 2, 3

## S04B-XH-A
designator CON?  (value not drawn)
3 A 250 V 2.5 mm; Value: S04B-XH-A; Pricing Аlternative: 0.029; Temp.Characteristic: -40C to +85C; ComponentLink1URL: http://www.jst-mfg.com; ComponentLink2URL: http://www.jst-mfg.com/product/images/pdf.gif; Dealer Digi-Key: https://detail.1688.com/offer/38233239228.html; Package / Case: 2.5 mm; PartNumber Digi-Key: S04B-XH-A; Pricing Digi-Key: 0.1; Publisher: Catcatcat Electronics; Voltage: 3 A 250 V 2.5 mm; Website developer: http://catcatcat.d-lan.dp.ua/
footprint S04B-XH-A
pins: 1, 2, 3, 4

## S04B-XH-A-1
designator CON?  (value not drawn)
3 A 250 V 2.5 mm; Value: S04B-XH-A-1; Pricing Аlternative: 0.029; Temp.Characteristic: -40C to +85C; ComponentLink1URL: http://www.jst-mfg.com; ComponentLink2URL: http://www.jst-mfg.com/product/images/pdf.gif; Dealer Digi-Key: https://detail.1688.com/offer/38233239228.html; Package / Case: 2.5 mm; PartNumber Digi-Key: S04B-XH-A-1; Pricing Digi-Key: 0.1; Publisher: Catcatcat Electronics; Voltage: 3 A 250 V 2.5 mm; Website developer: http://catcatcat.d-lan.dp.ua/
footprint S04B-XH-A-1
pins: 1, 2, 3, 4

## S05B-XH-A
designator CON?  (value not drawn)
3 A 250 V 2.5 mm; Value: S05B-XH-A; Pricing Аlternative: 0.029; Temp.Characteristic: -40C to +85C; ComponentLink1URL: http://www.jst-mfg.com; ComponentLink2URL: http://www.jst-mfg.com/product/images/pdf.gif; Dealer Digi-Key: https://detail.1688.com/offer/38233239228.html; Package / Case: 2.5 mm; PartNumber Digi-Key: S05B-XH-A; Pricing Digi-Key: 0.1; Publisher: Catcatcat Electronics; Voltage: 3 A 250 V 2.5 mm; Website developer: http://catcatcat.d-lan.dp.ua/
footprint S05B-XH-A
pins: 1, 2, 3, 4, 5

## S05B-XH-A-1
designator CON?  (value not drawn)
3 A 250 V 2.5 mm; Value: S05B-XH-A-1; Pricing Аlternative: 0.029; Temp.Characteristic: -40C to +85C; ComponentLink1URL: http://www.jst-mfg.com; ComponentLink2URL: http://www.jst-mfg.com/product/images/pdf.gif; Dealer Digi-Key: https://detail.1688.com/offer/38233239228.html; Package / Case: 2.5 mm; PartNumber Digi-Key: S05B-XH-A-1; Pricing Digi-Key: 0.1; Publisher: Catcatcat Electronics; Voltage: 3 A 250 V 2.5 mm; Website developer: http://catcatcat.d-lan.dp.ua/
footprint S05B-XH-A-1
pins: 1, 2, 3, 4, 5

## S06B-XH-A
designator CON?  (value not drawn)
3 A 250 V 2.5 mm; Value: S06B-XH-A; Pricing Аlternative: 0.029; Temp.Characteristic: -40C to +85C; ComponentLink1URL: http://www.jst-mfg.com; ComponentLink2URL: http://www.jst-mfg.com/product/images/pdf.gif; Dealer Digi-Key: https://detail.1688.com/offer/38233239228.html; Package / Case: 2.5 mm; PartNumber Digi-Key: S06B-XH-A; Pricing Digi-Key: 0.1; Publisher: Catcatcat Electronics; Voltage: 3 A 250 V 2.5 mm; Website developer: http://catcatcat.d-lan.dp.ua/
footprint S06B-XH-A
pins: 1, 2, 3, 4, 5, 6

## S06B-XH-A-1
designator CON?  (value not drawn)
3 A 250 V 2.5 mm; Value: S06B-XH-A-1; Pricing Аlternative: 0.029; Temp.Characteristic: -40C to +85C; ComponentLink1URL: http://www.jst-mfg.com; ComponentLink2URL: http://www.jst-mfg.com/product/images/pdf.gif; Dealer Digi-Key: https://detail.1688.com/offer/38233239228.html; Package / Case: 2.5 mm; PartNumber Digi-Key: S06B-XH-A-1; Pricing Digi-Key: 0.1; Publisher: Catcatcat Electronics; Voltage: 3 A 250 V 2.5 mm; Website developer: http://catcatcat.d-lan.dp.ua/
footprint S06B-XH-A-1
pins: 1, 2, 3, 4, 5, 6

## S07B-XH-A
designator CON?  (value not drawn)
3 A 250 V 2.5 mm; Value: S07B-XH-A; Pricing Аlternative: 0.029; Temp.Characteristic: -40C to +85C; ComponentLink1URL: http://www.jst-mfg.com; ComponentLink2URL: http://www.jst-mfg.com/product/images/pdf.gif; Dealer Digi-Key: https://detail.1688.com/offer/38233239228.html; Package / Case: 2.5 mm; PartNumber Digi-Key: S07B-XH-A; Pricing Digi-Key: 0.1; Publisher: Catcatcat Electronics; Voltage: 3 A 250 V 2.5 mm; Website developer: http://catcatcat.d-lan.dp.ua/
footprint S07B-XH-A
pins: 1, 2, 3, 4, 5, 6, 7

## S07B-XH-A-1
designator CON?  (value not drawn)
3 A 250 V 2.5 mm; Value: S07B-XH-A-1; Pricing Аlternative: 0.029; Temp.Characteristic: -40C to +85C; ComponentLink1URL: http://www.jst-mfg.com; ComponentLink2URL: http://www.jst-mfg.com/product/images/pdf.gif; Dealer Digi-Key: https://detail.1688.com/offer/38233239228.html; Package / Case: 2.5 mm; PartNumber Digi-Key: S07B-XH-A-1; Pricing Digi-Key: 0.1; Publisher: Catcatcat Electronics; Voltage: 3 A 250 V 2.5 mm; Website developer: http://catcatcat.d-lan.dp.ua/
footprint S07B-XH-A-1
pins: 1, 2, 3, 4, 5, 6, 7

## S08B-XH-A
designator CON?  (value not drawn)
3 A 250 V 2.5 mm; Value: S08B-XH-A; Pricing Аlternative: 0.029; Temp.Characteristic: -40C to +85C; ComponentLink1URL: http://www.jst-mfg.com; ComponentLink2URL: http://www.jst-mfg.com/product/images/pdf.gif; Dealer Digi-Key: https://detail.1688.com/offer/38233239228.html; Package / Case: 2.5 mm; PartNumber Digi-Key: S08B-XH-A; Pricing Digi-Key: 0.1; Publisher: Catcatcat Electronics; Voltage: 3 A 250 V 2.5 mm; Website developer: http://catcatcat.d-lan.dp.ua/
footprint S08B-XH-A
pins: 1, 2, 3, 4, 5, 6, 7, 8

## S08B-XH-A-1
designator CON?  (value not drawn)
3 A 250 V 2.5 mm; Value: S08B-XH-A-1; Pricing Аlternative: 0.029; Temp.Characteristic: -40C to +85C; ComponentLink1URL: http://www.jst-mfg.com; ComponentLink2URL: http://www.jst-mfg.com/product/images/pdf.gif; Dealer Digi-Key: https://detail.1688.com/offer/38233239228.html; Package / Case: 2.5 mm; PartNumber Digi-Key: S08B-XH-A-1; Pricing Digi-Key: 0.1; Publisher: Catcatcat Electronics; Voltage: 3 A 250 V 2.5 mm; Website developer: http://catcatcat.d-lan.dp.ua/
footprint S08B-XH-A-1
pins: 1, 2, 3, 4, 5, 6, 7, 8

## S09B-XH-A
designator CON?  (value not drawn)
3 A 250 V 2.5 mm; Value: S09B-XH-A; Pricing Аlternative: 0.029; Temp.Characteristic: -40C to +85C; ComponentLink1URL: http://www.jst-mfg.com; ComponentLink2URL: http://www.jst-mfg.com/product/images/pdf.gif; Dealer Digi-Key: https://detail.1688.com/offer/38233239228.html; Package / Case: 2.5 mm; PartNumber Digi-Key: S09B-XH-A; Pricing Digi-Key: 0.1; Publisher: Catcatcat Electronics; Voltage: 3 A 250 V 2.5 mm; Website developer: http://catcatcat.d-lan.dp.ua/
footprint S09B-XH-A
pins: 1, 2, 3, 4, 5, 6, 7, 8, 9

## S09B-XH-A-1
designator CON?  (value not drawn)
3 A 250 V 2.5 mm; Value: S09B-XH-A-1; Pricing Аlternative: 0.029; Temp.Characteristic: -40C to +85C; ComponentLink1URL: http://www.jst-mfg.com; ComponentLink2URL: http://www.jst-mfg.com/product/images/pdf.gif; Dealer Digi-Key: https://detail.1688.com/offer/38233239228.html; Package / Case: 2.5 mm; PartNumber Digi-Key: S09B-XH-A-1; Pricing Digi-Key: 0.1; Publisher: Catcatcat Electronics; Voltage: 3 A 250 V 2.5 mm; Website developer: http://catcatcat.d-lan.dp.ua/
footprint S09B-XH-A-1
pins: 1, 2, 3, 4, 5, 6, 7, 8, 9

## S10B-XH-A
designator CON?  (value not drawn)
3 A 250 V 2.5 mm; Value: S10B-XH-A; Pricing Аlternative: 0.029; Temp.Characteristic: -40C to +85C; ComponentLink1URL: http://www.jst-mfg.com; ComponentLink2URL: http://www.jst-mfg.com/product/images/pdf.gif; Dealer Digi-Key: https://detail.1688.com/offer/38233239228.html; Package / Case: 2.5 mm; PartNumber Digi-Key: S10B-XH-A; Pricing Digi-Key: 0.1; Publisher: Catcatcat Electronics; Voltage: 3 A 250 V 2.5 mm; Website developer: http://catcatcat.d-lan.dp.ua/
footprint S10B-XH-A
pins: 1, 2, 3, 4, 5, 6, 7, 8, 9, 10

## S10B-XH-A-1
designator CON?  (value not drawn)
3 A 250 V 2.5 mm; Value: S10B-XH-A-1; Pricing Аlternative: 0.029; Temp.Characteristic: -40C to +85C; ComponentLink1URL: http://www.jst-mfg.com; ComponentLink2URL: http://www.jst-mfg.com/product/images/pdf.gif; Dealer Digi-Key: https://detail.1688.com/offer/38233239228.html; Package / Case: 2.5 mm; PartNumber Digi-Key: S10B-XH-A-1; Pricing Digi-Key: 0.1; Publisher: Catcatcat Electronics; Voltage: 3 A 250 V 2.5 mm; Website developer: http://catcatcat.d-lan.dp.ua/
footprint S10B-XH-A-1
pins: 1, 2, 3, 4, 5, 6, 7, 8, 9, 10

## W2513S-02
designator CON?  (value not drawn)
3 A 250 V 2.5 mm; Value: B02B-XH-A; Pricing Аlternative: 0.029; Temp.Characteristic: -40C to +85C; ComponentLink1URL: http://www.jst-mfg.com; ComponentLink2URL: http://www.jst-mfg.com/product/images/pdf.gif; Dealer Digi-Key: https://detail.1688.com/offer/38233239228.html; Package / Case: 2.5 mm; PartNumber Digi-Key: B02B-XH-A; Pricing Digi-Key: 0.1; Publisher: Catcatcat Electronics; Voltage: 3 A 250 V 2.5 mm; Website developer: http://catcatcat.d-lan.dp.ua/
footprint B02B-XH-A
pins: 1, 2

## W2513S-10
designator CON?  (value not drawn)
3 A 250 V 2.5 mm; Value: B10B-XH-A; Pricing Аlternative: 0.029; Temp.Characteristic: -40C to +85C; ComponentLink1URL: http://www.jst-mfg.com; ComponentLink2URL: http://www.jst-mfg.com/product/images/pdf.gif; Dealer Digi-Key: https://detail.1688.com/offer/38233239228.html; Package / Case: 2.5 mm; PartNumber Digi-Key: B10B-XH-A; Pricing Digi-Key: 0.1; Publisher: Catcatcat Electronics; Voltage: 3 A 250 V 2.5 mm; Website developer: http://catcatcat.d-lan.dp.ua/
footprint B10B-XH-A
pins: 1, 2, 3, 4, 5, 6, 7, 8, 9, 10